# Altium schematic symbol library LED(GREEN, 2V, 20mA, SMD-0603).SchLib: 1 symbol
Pins are listed as number, name and electrical type; pins without a type are passive.

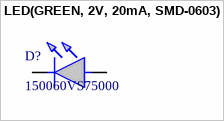
[diagram p0: symbol LED(GREEN, 2V, 20mA, SMD-0603)]

## LED(GREEN, 2V, 20mA, SMD-0603)
designator D?, comment 150060VS75000
LED(GREEN, 2V, 20mA, SMD-0603); Manufacturer: Würth Elektronik; Manufacturer_PN: 150060VS75000; Datasheet: https://www.we-online.com/components/products/datasheet/150060VS75000.pdf; Digikey_Link: https://www.digikey.it/en/products/detail/w%C3%BCrth-elektronik/150060VS75000/4489906
footprint LED_GREEN(2V, 20mA, SMD-0603)
pins: 1 A, 2 K